# EAGLE library part SN74LV139 (library PatternAgents-TI-Tiva)
DUAL 2-LINE TO 4-LINE DECODERS /DEMULTIPLEXERS
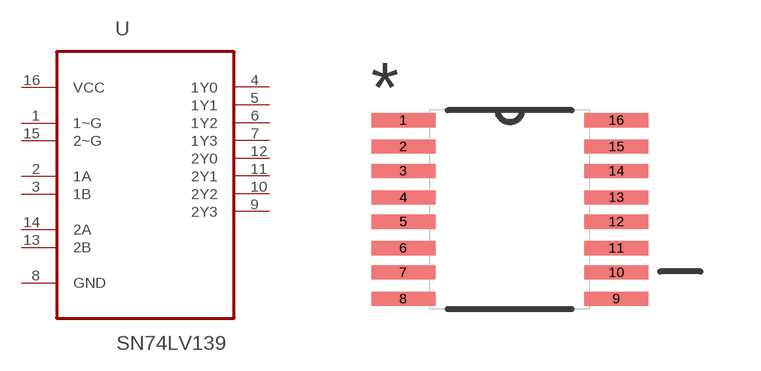
[diagram p14: symbol with the pads of SOP63P600X175-16N; footprint SOP63P600X175-16N]

Designator prefix U

## SN74LV139-APWR  [SOP63P600X175-16N]
1  1~G  in
2  1A  in
3  1B  in
4  1Y0  out
5  1Y1  out
6  1Y2  out
7  1Y3  out
8  GND  pas
9  2Y3  out
10  2Y2  out
11  2Y1  out
12  2Y0  out
13  2B  in
14  2A  in
15  2~G  in
16  VCC  pwr

## Footprint SOP63P600X175-16N (pad centres in mm)
smd 1.6 x 0.356: 1 -2.667,2.235; 2 -2.667,1.575; 3 -2.667,0.965; 4 -2.667,0.305; 5 -2.667,-0.305; 6 -2.667,-0.965; 7 -2.667,-1.575; 8 -2.667,-2.235; 9 2.667,-2.235; 10 2.667,-1.575; 11 2.667,-0.965; 12 2.667,-0.305; 13 2.667,0.305; 14 2.667,0.965; 15 2.667,1.575; 16 2.667,2.235